# EAGLE library part MCP3903 (library MCP3903)
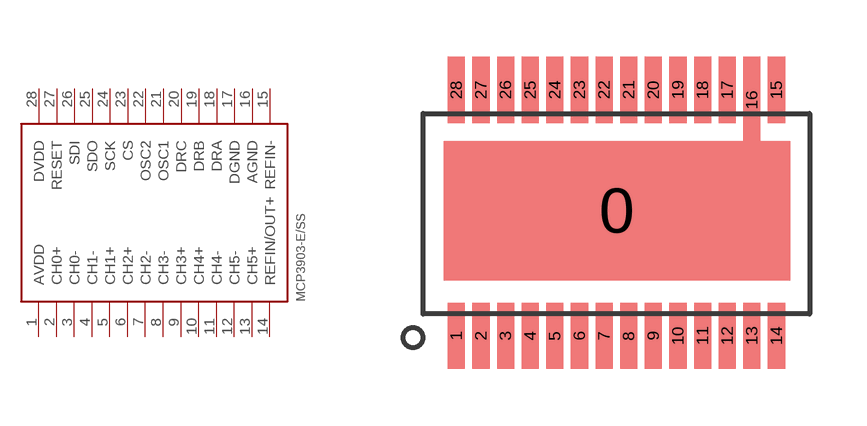
[diagram p0: symbol with the pads of 28-LEADSSOP; footprint 28-LEADSSOP]

Designator prefix -

## MCP3903  [28-LEADSSOP]
1  AVDD
2  CH0+
3  CH0-
4  CH1-
5  CH1+
6  CH2+
7  CH2-
8  CH3-
9  CH3+
10  CH4+
11  CH4-
12  CH5-
13  CH5+
14  REFIN/OUT+
15  REFIN-
16  AGND
17  DGND
18  DRA
19  DRB
20  DRC
21  OSC1
22  OSC2
23  CS
24  SCK
25  SDO
26  SDI
27  RESET
28  DVDD

## Footprint 28-LEADSSOP (pad centres in mm)
smd 9.144 x 3.683: 0 0.01,0.086
smd 0.45 x 1.75: 1 -4.225,-3.225; 2 -3.575,-3.225; 3 -2.925,-3.225; 4 -2.275,-3.225; 5 -1.625,-3.225; 6 -0.975,-3.225; 7 -0.325,-3.225; 8 0.325,-3.225; 9 0.975,-3.225; 10 1.625,-3.225; 11 2.275,-3.225; 12 2.925,-3.225; 13 3.575,-3.225; 14 4.225,-3.225; 15 4.225,3.275; 17 2.925,3.275; 18 2.275,3.275; 19 1.625,3.275; 20 0.975,3.275; 21 0.325,3.275; 22 -0.325,3.275; 23 -0.975,3.275; 24 -1.625,3.275; 25 -2.275,3.275; 26 -2.925,3.275; 27 -3.575,3.275; 28 -4.225,3.275
smd 0.45 x 2.286: 16 3.575,3.003